# Altium footprint library PCIe_x1_edge.PcbLib: 1 footprints
Each footprint in its own frame and in the unit in brackets; x right, y up, seen from the top. Pads: shape width x height; smd on the part's side, far side on the other; paste and mask are expansions set on the pad; w line width, h text height; cw(c..) or ccw(c..) is an arc to the next point about the centre after c.
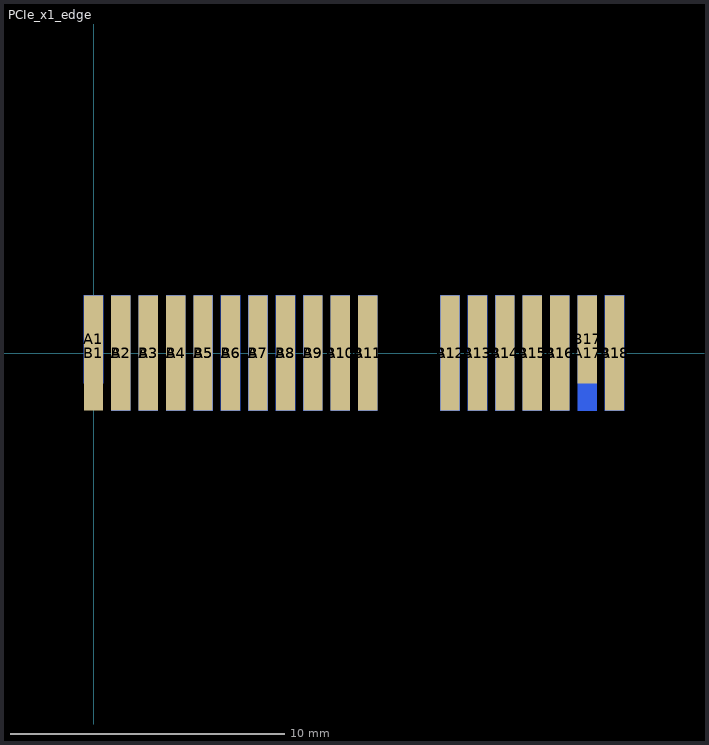
[diagram p0: the footprint, top view; thin cyan lines are the x and y axes]

## PCIe_x1_edge [mm] "PCI express x1 edge connector"
pads (36):
  rect 0.7x3.2 smd far side: A1(-0.011,0.508)
  rect 0.7x4.2 smd far side: A2(0.989,0.008) A3(1.989,0.008) A4(2.989,0.008) A5(3.989,0.008) A6(4.989,0.008) A7(5.989,0.008) A8(6.989,0.008) A9(7.989,0.008) A10(8.989,0.008) A11(9.989,0.008) A12(12.989,0.008) A13(13.989,0.008) A14(14.989,0.008) A15(15.989,0.008) A16(16.989,0.008) A17(17.989,0.008) A18(18.989,0.008)
  rect 0.7x4.2 smd: B1(-0.011,0.008) B2(0.989,0.008) B3(1.989,0.008) B4(2.989,0.008) B5(3.989,0.008) B6(4.989,0.008) B7(5.989,0.008) B8(6.989,0.008) B9(7.989,0.008) B10(8.989,0.008) B11(9.989,0.008) B12(12.989,0.008) B13(13.989,0.008) B14(14.989,0.008) B15(15.989,0.008) B16(16.989,0.008) B18(18.989,0.008)
  rect 0.7x3.2 smd: B17(17.989,0.508)
Top Solder:
  rectangle: -0.911,-3.742 19.889,2.233
Bottom Solder:
  rectangle: -0.911,-3.742 19.889,2.233
Mechanical 16:
  text "'.Designator'" at 6.98,-41.211 h2
  text "'.Designator'" at 6.55,2.644 h2